# Altium integrated library 0402WGF220JTCE.IntLib: 1 symbol
Pins are listed as number, name and electrical type; pins without a type are passive.

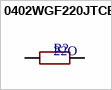
[diagram p0: symbol 0402WGF220JTCE]

## 0402WGF220JTCE
designator R?  value 22O  (hidden comment: 0402WGF220JTCE)
Resistors. -55C~+155C 22ohm 50V 62.5mW Thick Film Resistor +/-1% +/-100ppm/C 0402 Chip Resistor - Surface Mount ROHS; Manufacturer: UNI-ROYAL(Uniroyal Elec); Component Type: Resistors; Design Item ID: 0402WGF220JTCE; JLCPCB Part #: C25092; Manufacturer Part Number: 0402WGF220JTCE
footprint 0402WGF220JTCE (R0402)
pins: 1, 2